# Altium schematic symbol library Analog Devices Amplifiers and Linear Comparators.SchLib: 160 symbols (part 5 of 9)
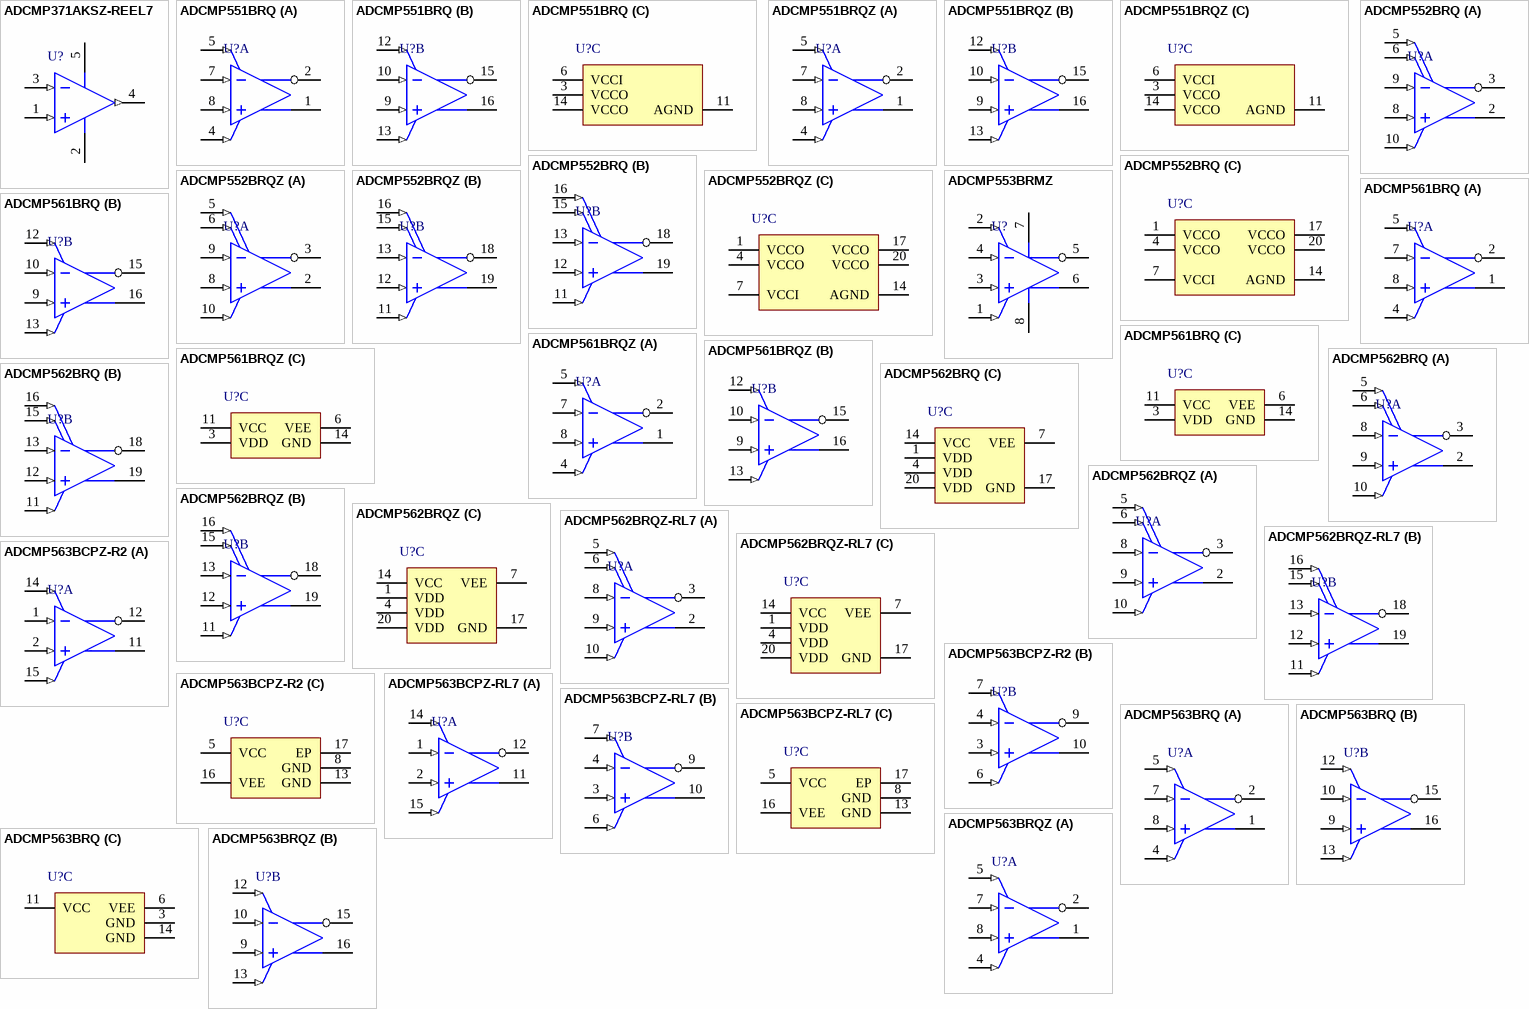
[diagram p11: symbols ADCMP371AKSZ-REEL7 to ADCMP563BRQZ]

## ADCMP563BRQ
designator U?
Dual High Speed ECL Comparator, 5, - 5.2 V, 750 ps Delay, Industrial, 16-pin SOP (RQ-16), Tube; Manufacturer: Analog Devices; PartNumber: ADCMP563BRQ; Input Range (V): -2 to 3; Voltage Supply (V): 5, -5.2; DatasheetVersion: Rev. C; PackageVersion: Aug-05; PackageReference: RQ-16; PackageDescription: 16-Pin Shrink Small Outline Package, Body 4.9 x 3.9 mm, Pitch 0.64 mm; Supplier 1: Digi-Key; Supplier Part Number 1: ADCMP563BRQ-ND; Supplier 2: Mouser; Supplier Part Number 2: N/A; Packing: Tube; Mounting Technology: Surface Mount; Code_JEDEC: MO-137-AB; ComponentLink1Description: Manufacturer URL; ComponentLink1URL: http://www.analog.com/en/index.html; ComponentLink2Description: Datasheet; ComponentLink2URL: http://www.analog.com/static/imported-files/data_sheets/ADCMP563_564.pdf; ComponentLink3Description: Package Specification; ComponentLink3URL: http://www.analog.com/static/imported-files/packages/5595549651201762937RQ_16.pdf; ComponentLink4Description: URL Link1; ComponentLink4URL: Product URL:http://www.analog.com/en/special-linear-functions/comparators/adcmp563/products/product.html
footprint ADI-RQ-16_N (SOP, 16-Leads, Body 4.9x3.9mm, Pitch 0.64mm, IPC Medium Density)
footprint ADI-RQ-16_L (SOP, 16-Leads, Body 4.9x3.9mm, Pitch 0.64mm, IPC High Density)
footprint ADI-RQ-16_M (SOP, 16-Leads, Body 4.9x3.9mm, Pitch 0.64mm, IPC Low Density)
part A pins: 1 QA (oe) "One of Two Complementary Outputs for Channel A. QA is logic high if the analog voltage at the noninverting input is greater than the analog voltage at the inverting input (provided the comparator is in compare mode). See the (See Datasheet)", 2 ~{QA} (oe) "One of Two Complementary Outputs for Channel A. Q\A\ is logic low if the analog voltage at the noninverting input is greater than the analog voltage at the inverting input (provided the comparator is in compare mode). See (See Datasheet)", 4 LEA (in) "One of Two Complementary Inputs for Channel A Latch Enable. In compare mode (logic high), the output tracks change at the input of the comparator. In latch mode (logic low), the output reflects the input state just prior to (See Datasheet)", 5 ~{LEA} (in) "One of Two Complementary Inputs for Channel A Latch Enable. In compare mode (logic low), the output tracks change at the input of the comparator. In latch mode (logic high), the output reflects the input state just prior to (See Datasheet)", 7 -INA (in) "Inverting Analog Input of the Differential Input Stage for Channel A. The Inverting A input must be driven in conjunction with the Noninverting A input.", 8 +INA (in) "Noninverting Analog Input of the Differential Input Stage for Channel A. The Noninverting A input must be driven in conjunction with the Inverting A input."
part B pins: 9 +INB (in) "Noninverting Analog Input of the Differential Input Stage for Channel B. The Noninverting B input must be driven in conjunction with the Inverting B input.", 10 -INB (in) "Inverting Analog Input of the Differential Input Stage for Channel B. The Inverting B input must be driven in conjunction with the Noninverting B input.", 12 ~{LEB} (in) "One of Two Complementary Inputs for Channel B Latch Enable. In compare mode (logic low), the output tracks change at the input of the comparator. In latch mode (logic high), the output reflects the input state just prior to (See Datasheet)", 13 LEB (in) "One of Two Complementary Inputs for Channel B Latch Enable. In compare mode (logic high), the output tracks change at the input of the comparator. In latch mode (logic low), the output reflects the input state just prior to (See Datasheet)", 15 ~{QB} (oe) "One of Two Complementary Outputs for Channel B. Q\B\ is logic low if the analog voltage at the noninverting input is greater than the analog voltage at the inverting input (provided the comparator is in compare mode). See (See Datasheet)", 16 QB (oe) "One of Two Complementary Outputs for Channel B. QB is logic high if the analog voltage at the noninverting input is greater than the analog voltage at the inverting input (provided the comparator is in compare mode). See the (See Datasheet)"
part C pins: 3 GND (power) "Analog Ground.", 6 VEE (power) "Negative Supply Terminal.", 11 VCC (power) "Positive Supply Terminal.", 14 GND (power) "Analog Ground."

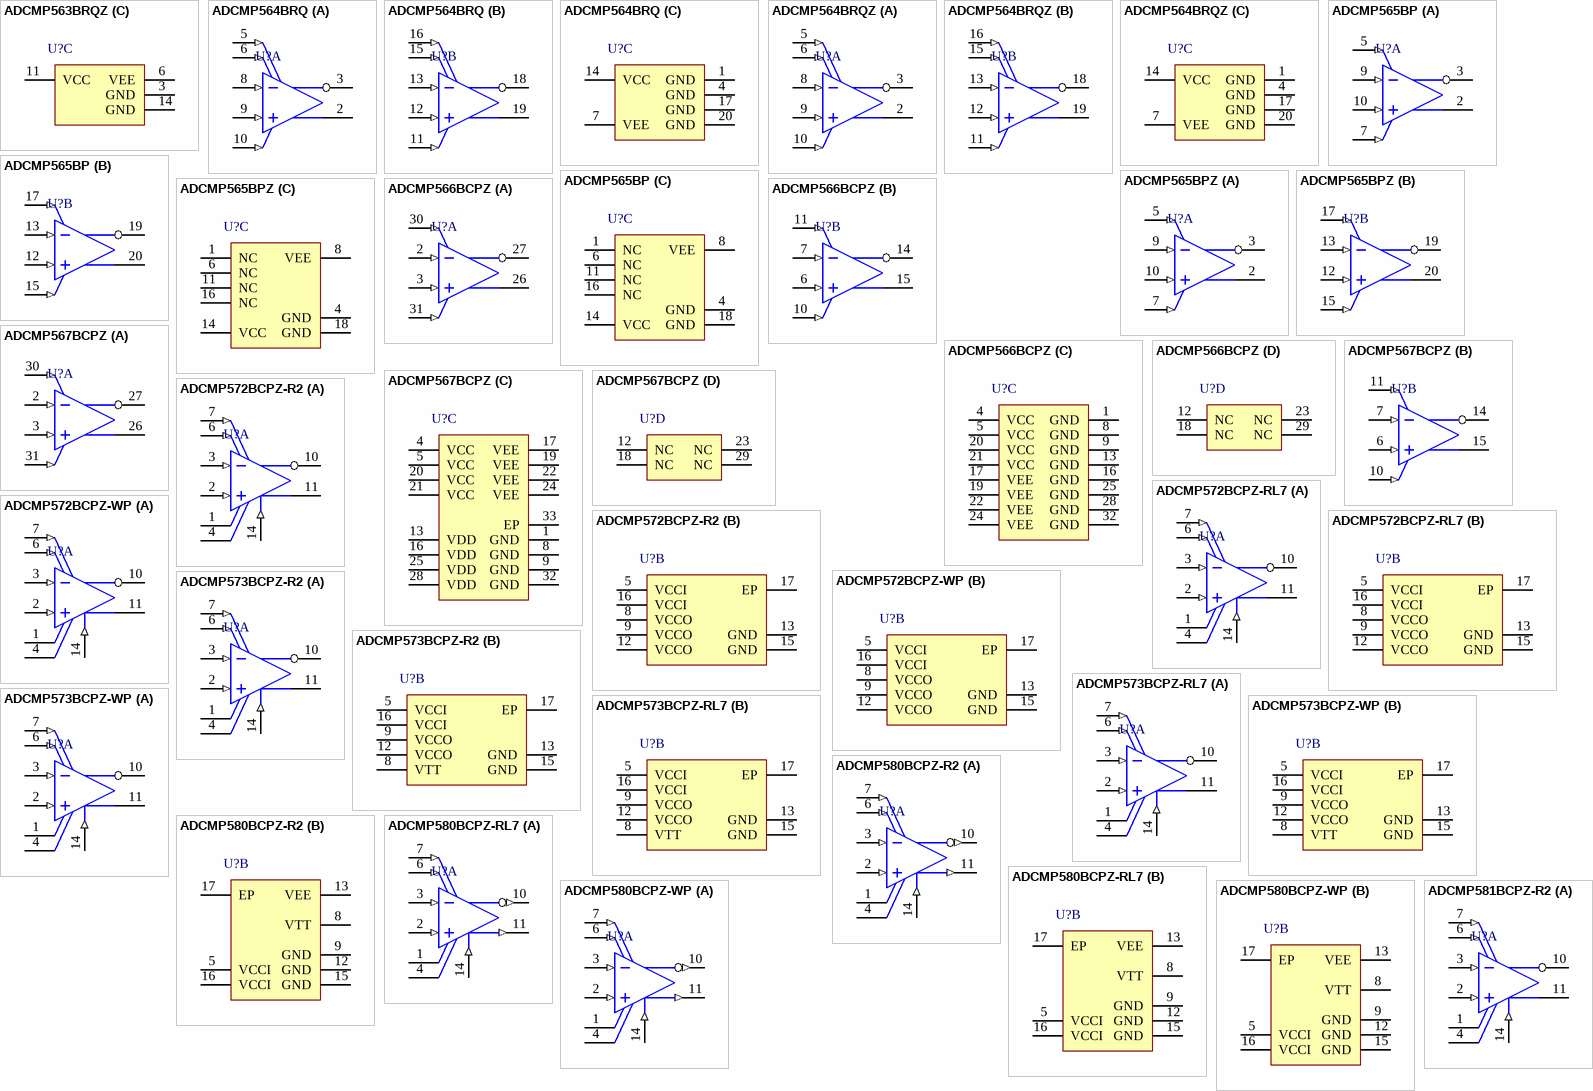
[diagram p4: symbols ADCMP563BRQZ to ADCMP581BCPZ-R2]

## ADCMP563BRQZ
designator U?
Dual High Speed ECL Comparator, 5, - 5.2 V, 750 ps Delay, Industrial, 16-pin SOP (RQ-16), Tube; Manufacturer: Analog Devices; PartNumber: ADCMP563BRQZ; Input Range (V): -2 to 3; Voltage Supply (V): 5, -5.2; DatasheetVersion: Rev. C; PackageVersion: Aug-05; PackageReference: RQ-16; PackageDescription: 16-Pin Shrink Small Outline Package, Body 4.9 x 3.9 mm, Pitch 0.64 mm; Supplier 1: Digi-Key; Supplier Part Number 1: ADCMP563BRQZ-ND; Supplier 2: Farnell; Supplier Part Number 2: 1438727; Supplier 3: Mouser; Supplier Part Number 3: 584-ADCMP563BRQZ; Packing: Tube; Mounting Technology: Surface Mount; Code_JEDEC: MO-137-AB; ComponentLink1Description: Manufacturer URL; ComponentLink1URL: http://www.analog.com/en/index.html; ComponentLink2Description: Datasheet; ComponentLink2URL: http://www.analog.com/static/imported-files/data_sheets/ADCMP563_564.pdf; ComponentLink3Description: Package Specification; ComponentLink3URL: http://www.analog.com/static/imported-files/packages/5595549651201762937RQ_16.pdf; ComponentLink4Description: URL Link1; ComponentLink4URL: Product URL:http://www.analog.com/en/special-linear-functions/comparators/adcmp563/products/product.html
footprint ADI-RQ-16_N (SOP, 16-Leads, Body 4.9x3.9mm, Pitch 0.64mm, IPC Medium Density)
footprint ADI-RQ-16_L (SOP, 16-Leads, Body 4.9x3.9mm, Pitch 0.64mm, IPC High Density)
footprint ADI-RQ-16_M (SOP, 16-Leads, Body 4.9x3.9mm, Pitch 0.64mm, IPC Low Density)
part A pins: 1 QA (oe) "One of Two Complementary Outputs for Channel A. QA is logic high if the analog voltage at the noninverting input is greater than the analog voltage at the inverting input (provided the comparator is in compare mode). See the (See Datasheet)", 2 ~{QA} (oe) "One of Two Complementary Outputs for Channel A. Q\A\ is logic low if the analog voltage at the noninverting input is greater than the analog voltage at the inverting input (provided the comparator is in compare mode). See (See Datasheet)", 4 LEA (in) "One of Two Complementary Inputs for Channel A Latch Enable. In compare mode (logic high), the output tracks change at the input of the comparator. In latch mode (logic low), the output reflects the input state just prior to (See Datasheet)", 5 ~{LEA} (in) "One of Two Complementary Inputs for Channel A Latch Enable. In compare mode (logic low), the output tracks change at the input of the comparator. In latch mode (logic high), the output reflects the input state just prior to (See Datasheet)", 7 -INA (in) "Inverting Analog Input of the Differential Input Stage for Channel A. The Inverting A input must be driven in conjunction with the Noninverting A input.", 8 +INA (in) "Noninverting Analog Input of the Differential Input Stage for Channel A. The Noninverting A input must be driven in conjunction with the Inverting A input."
part B pins: 9 +INB (in) "Noninverting Analog Input of the Differential Input Stage for Channel B. The Noninverting B input must be driven in conjunction with the Inverting B input.", 10 -INB (in) "Inverting Analog Input of the Differential Input Stage for Channel B. The Inverting B input must be driven in conjunction with the Noninverting B input.", 12 ~{LEB} (in) "One of Two Complementary Inputs for Channel B Latch Enable. In compare mode (logic low), the output tracks change at the input of the comparator. In latch mode (logic high), the output reflects the input state just prior to (See Datasheet)", 13 LEB (in) "One of Two Complementary Inputs for Channel B Latch Enable. In compare mode (logic high), the output tracks change at the input of the comparator. In latch mode (logic low), the output reflects the input state just prior to (See Datasheet)", 15 ~{QB} (oe) "One of Two Complementary Outputs for Channel B. Q\B\ is logic low if the analog voltage at the noninverting input is greater than the analog voltage at the inverting input (provided the comparator is in compare mode). See (See Datasheet)", 16 QB (oe) "One of Two Complementary Outputs for Channel B. QB is logic high if the analog voltage at the noninverting input is greater than the analog voltage at the inverting input (provided the comparator is in compare mode). See the (See Datasheet)"
part C pins: 3 GND (power) "Analog Ground.", 6 VEE (power) "Negative Supply Terminal.", 11 VCC (power) "Positive Supply Terminal.", 14 GND (power) "Analog Ground."

## ADCMP564BRQ
designator U?
Dual High Speed ECL Comparator, 5, - 5.2 V, 750 ps Delay, Industrial, 20-pin SOP (RQ-20), Tube; Manufacturer: Analog Devices; PartNumber: ADCMP564BRQ; Input Range (V): -2 to 3; Voltage Supply (V): 5, -5.2; DatasheetVersion: Rev. C; PackageVersion: Aug-05; PackageReference: RQ-20; PackageDescription: 20-Pin Shrink Small Outline Package, Body 8.66 x 3.9 mm, Pitch 0.635 mm; Supplier 1: Digi-Key; Supplier Part Number 1: ADCMP564BRQ-ND; Supplier 2: Mouser; Supplier Part Number 2: 584-ADCMP564BRQ; Packing: Tube; Mounting Technology: Surface Mount; Code_JEDEC: MO-137-AD; ComponentLink1Description: Manufacturer URL; ComponentLink1URL: http://www.analog.com/en/index.html; ComponentLink2Description: Datasheet; ComponentLink2URL: http://www.analog.com/static/imported-files/data_sheets/ADCMP563_564.pdf; ComponentLink3Description: Package Specification; ComponentLink3URL: http:/www.analog.com/static/imported-files/packages/184195322RQ_20.pdf; ComponentLink4Description: URL Link1; ComponentLink4URL: Product URL:http://www.analog.com/en/special-linear-functions/comparators/adcmp564/products/product.html
footprint ADI-RQ-20_N (SOP, 20-Leads, Body 8.66x3.9mm, Pitch 0.635mm, IPC Medium Density)
footprint ADI-RQ-20_L (SOP, 20-Leads, Body 8.66x3.9mm, Pitch 0.635mm, IPC High Density)
footprint ADI-RQ-20_M (SOP, 20-Leads, Body 8.66x3.9mm, Pitch 0.635mm, IPC Low Density)
part A pins: 2 QA (oe) "One of Two Complementary Outputs for Channel A. QA is logic high if the analog voltage at the noninverting input is greater than the analog voltage at the inverting input (provided the comparator is in compare mode). See the (See Datasheet)", 3 ~{QA} (oe) "One of Two Complementary Outputs for Channel A. Q\A\ is logic low if the analog voltage at the noninverting input is greater than the analog voltage at the inverting input (provided the comparator is in compare mode). See (See Datasheet)", 5 LEA (in) "One of Two Complementary Inputs for Channel A Latch Enable. In compare mode (logic high), the output tracks change at the input of the comparator. In latch mode (logic low), the output reflects the input state just prior to (See Datasheet)", 6 ~{LEA} (in) "One of Two Complementary Inputs for Channel A Latch Enable. In compare mode (logic low), the output tracks change at the input of the comparator. In latch mode (logic high), the output reflects the input state just prior to (See Datasheet)", 8 -INA (in) "Inverting Analog Input of the Differential Input Stage for Channel A. The Inverting A input must be driven in conjunction with the Noninverting A input.", 9 +INA (in) "Noninverting Analog Input of the Differential Input Stage for Channel A. The Noninverting A input must be driven in conjunction with the Inverting A input.", 10 HYSA (in) "Programmable Hysteresis Input."
part B pins: 11 HYSB (in) "Programmable Hysteresis Input.", 12 +INB (in) "Noninverting Analog Input of the Differential Input Stage for Channel B. The Noninverting B input must be driven in conjunction with the Inverting B input.", 13 -INB (in) "Inverting Analog Input of the Differential Input Stage for Channel B. The Inverting B input must be driven in conjunction with the Noninverting B input.", 15 ~{LEB} (in) "One of Two Complementary Inputs for Channel B Latch Enable. In compare mode (logic low), the output tracks change at the input of the comparator. In latch mode (logic high), the output reflects the input state just prior to (See Datasheet)", 16 LEB (in) "One of Two Complementary Inputs for Channel B Latch Enable. In compare mode (logic high), the output tracks change at the input of the comparator. In latch mode (logic low), the output reflects the input state just prior to (See Datasheet)", 18 ~{QB} (oe) "One of Two Complementary Outputs for Channel B. Q\B\ is logic low if the analog voltage at the noninverting input is greater than the analog voltage at the inverting input (provided the comparator is in compare mode). See (See Datasheet)", 19 QB (oe) "One of Two Complementary Outputs for Channel B. QB is logic high if the analog voltage at the noninverting input is greater than the analog voltage at the inverting input (provided the comparator is in compare mode). See the (See Datasheet)"
part C pins: 1 GND (power) "Analog Ground.", 4 GND (power) "Analog Ground.", 7 VEE (power) "Negative Supply Terminal.", 14 VCC (power) "Positive Supply Terminal.", 17 GND (power) "Analog Ground.", 20 GND (power) "Analog Ground."

## ADCMP564BRQZ
designator U?
Dual High Speed ECL Comparator, 5, - 5.2 V, 750 ps Delay, Industrial, 20-pin SOP (RQ-20), Tube; Manufacturer: Analog Devices; PartNumber: ADCMP564BRQZ; Input Range (V): -2 to 3; Voltage Supply (V): 5, -5.2; DatasheetVersion: Rev. C; PackageVersion: Aug-05; PackageReference: RQ-20; PackageDescription: 20-Pin Shrink Small Outline Package, Body 8.66 x 3.9 mm, Pitch 0.635 mm; Supplier 1: Digi-Key; Supplier Part Number 1: ADCMP564BRQZ-ND; Supplier 2: Farnell; Supplier Part Number 2: 1438728; Supplier 3: Mouser; Supplier Part Number 3: 584-ADCMP564BRQZ; Packing: Tube; Mounting Technology: Surface Mount; Code_JEDEC: MO-137-AD; ComponentLink1Description: Manufacturer URL; ComponentLink1URL: http://www.analog.com/en/index.html; ComponentLink2Description: Datasheet; ComponentLink2URL: http://www.analog.com/static/imported-files/data_sheets/ADCMP563_564.pdf; ComponentLink3Description: Package Specification; ComponentLink3URL: http:/www.analog.com/static/imported-files/packages/184195322RQ_20.pdf; ComponentLink4Description: URL Link1; ComponentLink4URL: Product URL:http://www.analog.com/en/special-linear-functions/comparators/adcmp564/products/product.html
footprint ADI-RQ-20_N (SOP, 20-Leads, Body 8.66x3.9mm, Pitch 0.635mm, IPC Medium Density)
footprint ADI-RQ-20_L (SOP, 20-Leads, Body 8.66x3.9mm, Pitch 0.635mm, IPC High Density)
footprint ADI-RQ-20_M (SOP, 20-Leads, Body 8.66x3.9mm, Pitch 0.635mm, IPC Low Density)
part A pins: 2 QA (oe) "One of Two Complementary Outputs for Channel A. QA is logic high if the analog voltage at the noninverting input is greater than the analog voltage at the inverting input (provided the comparator is in compare mode). See the (See Datasheet)", 3 ~{QA} (oe) "One of Two Complementary Outputs for Channel A. Q\A\ is logic low if the analog voltage at the noninverting input is greater than the analog voltage at the inverting input (provided the comparator is in compare mode). See (See Datasheet)", 5 LEA (in) "One of Two Complementary Inputs for Channel A Latch Enable. In compare mode (logic high), the output tracks change at the input of the comparator. In latch mode (logic low), the output reflects the input state just prior to (See Datasheet)", 6 ~{LEA} (in) "One of Two Complementary Inputs for Channel A Latch Enable. In compare mode (logic low), the output tracks change at the input of the comparator. In latch mode (logic high), the output reflects the input state just prior to (See Datasheet)", 8 -INA (in) "Inverting Analog Input of the Differential Input Stage for Channel A. The Inverting A input must be driven in conjunction with the Noninverting A input.", 9 +INA (in) "Noninverting Analog Input of the Differential Input Stage for Channel A. The Noninverting A input must be driven in conjunction with the Inverting A input.", 10 HYSA (in) "Programmable Hysteresis Input."
part B pins: 11 HYSB (in) "Programmable Hysteresis Input.", 12 +INB (in) "Noninverting Analog Input of the Differential Input Stage for Channel B. The Noninverting B input must be driven in conjunction with the Inverting B input.", 13 -INB (in) "Inverting Analog Input of the Differential Input Stage for Channel B. The Inverting B input must be driven in conjunction with the Noninverting B input.", 15 ~{LEB} (in) "One of Two Complementary Inputs for Channel B Latch Enable. In compare mode (logic low), the output tracks change at the input of the comparator. In latch mode (logic high), the output reflects the input state just prior to (See Datasheet)", 16 LEB (in) "One of Two Complementary Inputs for Channel B Latch Enable. In compare mode (logic high), the output tracks change at the input of the comparator. In latch mode (logic low), the output reflects the input state just prior to (See Datasheet)", 18 ~{QB} (oe) "One of Two Complementary Outputs for Channel B. Q\B\ is logic low if the analog voltage at the noninverting input is greater than the analog voltage at the inverting input (provided the comparator is in compare mode). See (See Datasheet)", 19 QB (oe) "One of Two Complementary Outputs for Channel B. QB is logic high if the analog voltage at the noninverting input is greater than the analog voltage at the inverting input (provided the comparator is in compare mode). See the (See Datasheet)"
part C pins: 1 GND (power) "Analog Ground.", 4 GND (power) "Analog Ground.", 7 VEE (power) "Negative Supply Terminal.", 14 VCC (power) "Positive Supply Terminal.", 17 GND (power) "Analog Ground.", 20 GND (power) "Analog Ground."

## ADCMP565BP
designator U?
Dual Ultrafast Voltage Comparator, 5, - 5.2 V, 300 ps Delay, Commercial, 20-pin PLCC (P-20A), Tube; Manufacturer: Analog Devices; PartNumber: ADCMP565BP; Input Range (V): -2 to 3; Total Power (mW): 435mW; Voltage Supply (V): 5, -5.2; DatasheetVersion: Rev. 0; PackageVersion: Nov-02; PackageReference: P-20A; PackageDescription: 20-Pin Plastic Leaded Chip Carrier, Body 8.97 x 8.97 mm, Pitch 1.27 mm; Supplier 1: Digi-Key; Supplier Part Number 1: ADCMP565BP-ND; Supplier 2: Mouser; Supplier Part Number 2: 584-ADCMP565BP; Packing: Tube; Mounting Technology: Through Hole; Code_JEDEC: MO-047AA; ComponentLink1Description: Manufacturer URL; ComponentLink1URL: http://www.analog.com/en/index.html; ComponentLink2Description: Datasheet; ComponentLink2URL: http://www.analog.com/static/imported-files/data_sheets/ADCMP565.pdf; ComponentLink3Description: Package Specification; ComponentLink3URL: http://www.analog.com/static/imported-files/packages/3121431516544404277643669223804694P20A.pdf; ComponentLink4Description: URL Link1; ComponentLink4URL: Product URL:http://www.analog.com/en/special-linear-functions/comparators/adcmp565/products/product.html
footprint ADI-P-20A_N (PLCC, 20-Leads, Body 8.965x8.965mm, Pitch 1.27mm, IPC Medium Density)
footprint ADI-P-20A_L (PLCC, 20-Leads, Body 8.965x8.965mm, Pitch 1.27mm, IPC High Density)
footprint ADI-P-20A_M (PLCC, 20-Leads, Body 8.965x8.965mm, Pitch 1.27mm, IPC Low Density)
part A pins: 2 QA (oe) "One of two complementary outputs for Channel A. QA will be at logic high if the analog voltage at the noninverting input is greater than the analog voltage at the inverting input (provided the comparator is in the compare (See Datasheet)", 3 ~{QA} (oe) "One of two complementary outputs for Channel A. Q\A\ will be at logic low if the analog voltage at the noninverting input is greater than the analog voltage at the inverting input (provided the comparator is in the compare (See Datasheet)", 5 LEA (in) "One of two complementary inputs for Channel A Latch Enable. In the compare mode (logic high), the output will track changes at the input of the comparator. In the latch mode (logic low), the output will reflect the input (See Datasheet)", 7 ~{LEA} (in) "One of two complementary inputs for Channel A Latch Enable. In the compare mode (logic low), the output will track changes at the input of the comparator. In the latch mode (logic high), the output will reflect the input (See Datasheet)", 9 -INA (in) "Inverting analog input of the differential input stage for Channel A. The inverting A input must be driven in conjunction with the noninverting A input.", 10 +INA (in) "Noninverting analog input of the differential input stage for Channel A. The noninverting A input must be driven in conjunction with the inverting A input."
part B pins: 12 +INB (in) "Noninverting analog input of the differential input stage for Channel B. The noninverting B input must be driven in conjunction with the inverting B input.", 13 -INB (in) "Inverting analog input of the differential input stage for Channel B. The inverting B input must be driven in conjunction with the noninverting B input.", 15 ~{LEB} (in) "One of two complementary inputs for Channel B Latch Enable. In the compare mode (logic low), the output will track changes at the input of the comparator. In the latch mode (logic high), the output will reflect the input (See Datasheet)", 17 LEB (in) "One of two complementary inputs for Channel B Latch Enable. In the compare mode (logic high), the output will track changes at the input of the comparator. In the latch mode (logic low), the output will reflect the input (See Datasheet)", 19 ~{QB} (oe) "One of two complementary outputs for Channel B. Q\B\ will be at logic low if the analog voltage at the noninverting input is greater than the analog voltage at the inverting input (provided the comparator is in the compare (See Datasheet)", 20 QB (oe) "One of two complementary outputs for Channel B. QB will be at logic high if the analog voltage at the noninverting input is greater than the analog voltage at the inverting input (provided the comparator is in the compare (See Datasheet)"
part C pins: 1 NC "No Connect. Leave pin unconnected.", 4 GND (power) "Analog Ground", 6 NC "No Connect. Leave pin unconnected or attach to GND (internally connected to GND).", 8 VEE (power) "Negative Supply Terminal", 11 NC "No Connect. Leave pin unconnected.", 14 VCC (power) "Positive Supply Terminal", 16 NC "No Connect. Leave pin unconnected or attach to GND (internally connected to GND).", 18 GND (power) "Analog Ground"

## ADCMP565BPZ
designator U?
Dual Ultrafast Voltage Comparator, 5, - 5.2 V, 300 ps Delay, Industrial, 20-pin PLCC (P-20A), Tube; Manufacturer: Analog Devices; PartNumber: ADCMP565BPZ; Input Range (V): -2 to 3; Total Power (mW): 435mW; Voltage Supply (V): 5, -5.2; DatasheetVersion: Rev. 0; PackageVersion: Nov-02; PackageReference: P-20A; PackageDescription: 20-Pin Plastic Leaded Chip Carrier, Body 8.97 x 8.97 mm, Pitch 1.27 mm; Supplier 1: Digi-Key; Supplier Part Number 1: ADCMP565BPZ-ND; Supplier 2: Mouser; Supplier Part Number 2: 584-ADCMP565BPZ; Packing: Tube; Mounting Technology: Through Hole; Code_JEDEC: MO-047AA; ComponentLink1Description: Manufacturer URL; ComponentLink1URL: http://www.analog.com/en/index.html; ComponentLink2Description: Datasheet; ComponentLink2URL: http://www.analog.com/static/imported-files/data_sheets/ADCMP565.pdf; ComponentLink3Description: Package Specification; ComponentLink3URL: http://www.analog.com/static/imported-files/packages/3121431516544404277643669223804694P20A.pdf; ComponentLink4Description: URL Link1; ComponentLink4URL: Product URL:http://www.analog.com/en/special-linear-functions/comparators/adcmp565/products/product.html
footprint ADI-P-20A_N (PLCC, 20-Leads, Body 8.965x8.965mm, Pitch 1.27mm, IPC Medium Density)
footprint ADI-P-20A_L (PLCC, 20-Leads, Body 8.965x8.965mm, Pitch 1.27mm, IPC High Density)
footprint ADI-P-20A_M (PLCC, 20-Leads, Body 8.965x8.965mm, Pitch 1.27mm, IPC Low Density)
part A pins: 2 QA (oe) "One of two complementary outputs for Channel A. QA will be at logic high if the analog voltage at the noninverting input is greater than the analog voltage at the inverting input (provided the comparator is in the compare (See Datasheet)", 3 ~{QA} (oe) "One of two complementary outputs for Channel A. Q\A\ will be at logic low if the analog voltage at the noninverting input is greater than the analog voltage at the inverting input (provided the comparator is in the compare (See Datasheet)", 5 LEA (in) "One of two complementary inputs for Channel A Latch Enable. In the compare mode (logic high), the output will track changes at the input of the comparator. In the latch mode (logic low), the output will reflect the input (See Datasheet)", 7 ~{LEA} (in) "One of two complementary inputs for Channel A Latch Enable. In the compare mode (logic low), the output will track changes at the input of the comparator. In the latch mode (logic high), the output will reflect the input (See Datasheet)", 9 -INA (in) "Inverting analog input of the differential input stage for Channel A. The inverting A input must be driven in conjunction with the noninverting A input.", 10 +INA (in) "Noninverting analog input of the differential input stage for Channel A. The noninverting A input must be driven in conjunction with the inverting A input."
part B pins: 12 +INB (in) "Noninverting analog input of the differential input stage for Channel B. The noninverting B input must be driven in conjunction with the inverting B input.", 13 -INB (in) "Inverting analog input of the differential input stage for Channel B. The inverting B input must be driven in conjunction with the noninverting B input.", 15 ~{LEB} (in) "One of two complementary inputs for Channel B Latch Enable. In the compare mode (logic low), the output will track changes at the input of the comparator. In the latch mode (logic high), the output will reflect the input (See Datasheet)", 17 LEB (in) "One of two complementary inputs for Channel B Latch Enable. In the compare mode (logic high), the output will track changes at the input of the comparator. In the latch mode (logic low), the output will reflect the input (See Datasheet)", 19 ~{QB} (oe) "One of two complementary outputs for Channel B. Q\B\ will be at logic low if the analog voltage at the noninverting input is greater than the analog voltage at the inverting input (provided the comparator is in the compare (See Datasheet)", 20 QB (oe) "One of two complementary outputs for Channel B. QB will be at logic high if the analog voltage at the noninverting input is greater than the analog voltage at the inverting input (provided the comparator is in the compare (See Datasheet)"
part C pins: 1 NC "No Connect. Leave pin unconnected.", 4 GND (power) "Analog Ground", 6 NC "No Connect. Leave pin unconnected or attach to GND (internally connected to GND).", 8 VEE (power) "Negative Supply Terminal", 11 NC "No Connect. Leave pin unconnected.", 14 VCC (power) "Positive Supply Terminal", 16 NC "No Connect. Leave pin unconnected or attach to GND (internally connected to GND).", 18 GND (power) "Analog Ground"

## ADCMP566BCPZ
designator U?
Dual Ultrafast Voltage Comparator, 5, - 5.2 V, 250 ps Delay, Industrial, 32-pin QFN (CP-32-2), Tray; Manufacturer: Analog Devices; PartNumber: ADCMP566BCPZ; Input Range (V): -2 to 3; Total Power (mW): 450mW; Voltage Supply (V): 5, -5.2; DatasheetVersion: Rev. 0; PackageVersion: Jan-05; PackageReference: CP-32-2; PackageDescription: 32-Pin Lead Frame Chip Scale Package, Body 5 x 5 mm, Pitch 0.5 mm; Supplier 1: Digi-Key; Supplier Part Number 1: ADCMP566BCPZ-ND; Supplier 2: Mouser; Supplier Part Number 2: 584-ADCMP566BCPZ; Packing: Tray; Mounting Technology: Surface Mount; Code_JEDEC: MO-220-VHHD-2; ComponentLink1Description: Manufacturer URL; ComponentLink1URL: http://www.analog.com/en/index.html; ComponentLink2Description: Datasheet; ComponentLink2URL: http://www.analog.com/static/imported-files/data_sheets/ADCMP566.pdf; ComponentLink3Description: Package Specification; ComponentLink3URL: http://www.analog.com/static/imported-files/packages/414143737956480539664569CP_32_2.pdf; ComponentLink4Description: URL Link1; ComponentLink4URL: Product URL:http://www.analog.com/en/special-linear-functions/comparators/adcmp566/products/product.html
footprint ADI-CP-32-2_N (QFN, 32-Leads, Body 5x5mm, Pitch 0.5mm, Thermal Pad 3.1x3.1mm, IPC Medium Density)
footprint ADI-CP-32-2_L (QFN, 32-Leads, Body 5x5mm, Pitch 0.5mm, Thermal Pad 3.1x3.1mm, IPC High Density)
footprint ADI-CP-32-2_M (QFN, 32-Leads, Body 5x5mm, Pitch 0.5mm, Thermal Pad 3.1x3.1mm, IPC Low Density)
part A pins: 2 -INA (in), 3 +INA (in), 26 QA (oe), 27 ~{QA} (oe), 30 LEA (in), 31 ~{LEA} (in)
part B pins: 6 +INB (in), 7 -INB (in), 10 ~{LEB} (in), 11 LEB (in), 14 ~{QB} (oe), 15 QB (oe)
part C pins: 1 GND (power) "Analog Ground", 4 VCC (power) "Positive Supply Terminal", 5 VCC (power) "Positive Supply Terminal", 8 GND (power) "Analog Ground", 9 GND (power) "Analog Ground", 13 GND (power) "Digital Ground", 16 GND (power) "Digital Ground", 17 VEE (power) "Negative Supply Terminal", 19 VEE (power) "Negative Supply Terminal", 20 VCC (power) "Positive Supply Terminal", 21 VCC (power) "Positive Supply Terminal", 22 VEE (power) "Negative Supply Terminal", 24 VEE (power) "Negative Supply Terminal", 25 GND (power) "Digital Ground", 28 GND (power) "Digital Ground", 32 GND (power) "Analog Ground"
part D pins: 12 NC "No Connect. Leave pin unconnected.", 18 NC "No Connect. Leave pin unconnected.", 23 NC "No Connect. Leave pin unconnected.", 29 NC "No Connect. Leave pin unconnected."

## ADCMP567BCPZ
designator U?
Dual Ultrafast Voltage Comparator, 5, - 5.2 V, 250 ps Delay, Industrial, 32-pin QFN (CP-32-2), Tray; Manufacturer: Analog Devices; PartNumber: ADCMP567BCPZ; Input Range (V): -2 to 3; Total Power (mW): 515mW; Voltage Supply (V): 5, -5.2; DatasheetVersion: Rev. 0; PackageVersion: Jan-05; PackageReference: CP-32-2; PackageDescription: 32-Pin Lead Frame Chip Scale Package, Body 5 x 5 mm, Pitch 0.5 mm; Supplier 1: Digi-Key; Supplier Part Number 1: ADCMP567BCPZ-ND; Supplier 2: Farnell; Supplier Part Number 2: 1438730; Supplier 3: Mouser; Supplier Part Number 3: 584-ADCMP567BCPZ; Packing: Tray; Mounting Technology: Surface Mount; Code_JEDEC: MO-220-VHHD-2; ComponentLink1Description: Manufacturer URL; ComponentLink1URL: http://www.analog.com/en/index.html; ComponentLink2Description: Datasheet; ComponentLink2URL: http://www.analog.com/static/imported-files/data_sheets/ADCMP567.pdf; ComponentLink3Description: Package Specification; ComponentLink3URL: http://www.analog.com/static/imported-files/packages/414143737956480539664569CP_32_2.pdf; ComponentLink4Description: URL Link1; ComponentLink4URL: Product URL:http://www.analog.com/en/special-linear-functions/comparators/adcmp567/products/product.html
footprint ADI-CP-32-2_N (QFN, 32-Leads, Body 5x5mm, Pitch 0.5mm, Thermal Pad 3.1x3.1mm, IPC Medium Density)
footprint ADI-CP-32-2_L (QFN, 32-Leads, Body 5x5mm, Pitch 0.5mm, Thermal Pad 3.1x3.1mm, IPC High Density)
footprint ADI-CP-32-2_M (QFN, 32-Leads, Body 5x5mm, Pitch 0.5mm, Thermal Pad 3.1x3.1mm, IPC Low Density)
part A pins: 2 -INA (in) "Inverting analog input of the differential input stage for Channel A. The inverting A input must be driven in conjunction with the noninverting A input.", 3 +INA (in) "Noninverting analog input of the differential input stage for Channel A. The noninverting A input must be driven in conjunction with the inverting A input.", 26 QA (oe) "One of two complementary outputs for Channel A. QA will be at logic high if the analog voltage at the noninverting input is greater than the analog voltage at the inverting input (provided the comparator is in the compare (See Datasheet)", 27 ~{QA} (oe) "One of two complementary outputs for Channel A. Q\A\ will be at logic low if the analog voltage at the noninverting input is greater than the analog voltage at the inverting input (provided the comparator is in the compare (See Datasheet)", 30 LEA (in) "One of two complementary inputs for Channel A Latch Enable. In the compare mode (logic high), the output will track changes at the input of the comparator. In the latch mode (logic low), the output will reflect the input (See Datasheet)", 31 ~{LEA} (in) "One of two complementary inputs for Channel A Latch Enable. In the compare mode (logic low), the output will track changes at the input of the comparator. In the latch mode (logic high), the output will reflect the input (See Datasheet)"
part B pins: 6 +INB (in) "Noninverting analog input of the differential input stage for Channel B. The noninverting B input must be driven in conjunction with the inverting B input.", 7 -INB (in) "Inverting analog input of the differential input stage for Channel B. The inverting B input must be driven in conjunction with the noninverting B input.", 10 ~{LEB} (in) "One of two complementary inputs for Channel B Latch Enable. In the compare mode (logic low), the output will track changes at the input of the comparator. In the latch mode (logic high), the output will reflect the input (See Datasheet)", 11 LEB (in) "One of two complementary inputs for Channel B Latch Enable. In the compare mode (logic high), the output will track changes at the input of the comparator. In the latch mode (logic low), the output will reflect the input (See Datasheet)", 14 ~{QB} (oe) "One of two complementary outputs for Channel B. Q\B\ will be at logic low if the analog voltage at the noninverting input is greater than the analog voltage at the inverting input (provided the comparator is in the compare (See Datasheet)", 15 QB (oe) "One of two complementary outputs for Channel B. QB will be at logic high if the analog voltage at the noninverting input is greater than the analog voltage at the inverting input (provided the comparator is in the compare (See Datasheet)"
part C pins: 1 GND (power) "Analog Ground", 4 VCC (power) "Positive Supply Terminal", 5 VCC (power) "Positive Supply Terminal", 8 GND (power) "Analog Ground", 9 GND (power) "Analog Ground", 13 VDD (power) "Logic Supply Terminal", 16 VDD (power) "Logic Supply Terminal", 17 VEE (power) "Negative Supply Terminal", 19 VEE (power) "Negative Supply Terminal", 20 VCC (power) "Positive Supply Terminal", 21 VCC (power) "Positive Supply Terminal", 22 VEE (power) "Negative Supply Terminal", 24 VEE (power) "Negative Supply Terminal", 25 VDD (power) "Logic Supply Terminal", 28 VDD (power) "Logic Supply Terminal", 32 GND (power) "Analog Ground", 33 EP "Exposed Pad"
part D pins: 12 NC "No Connect. Leave pin unconnected.", 18 NC "No Connect. Leave pin unconnected.", 23 NC "No Connect. Leave pin unconnected.", 29 NC "No Connect. Leave pin unconnected."

## ADCMP572BCPZ-R2
designator U?
Ultrafast Single-Supply SiGe Comparator, 3.3 to 5 V, 150 ps Delay, Industrial, 16-pin QFN (CP-16-3), Reel; Manufacturer: Analog Devices; PartNumber: ADCMP572BCPZ-R2; Input Range (V): -0.5 to VCCI+0.5; Supply Current: 3.3, 5; Voltage Supply (V): 3.3 to 5; DatasheetVersion: Rev. A; PackageReference: CP-16-3; PackageDescription: 16-Pin Lead Frame Chip Scale Package, Body 3 x 3 mm, Pitch 0.5 mm; Supplier 1: Digi-Key; Supplier Part Number 1: ADCMP572BCPZ-R2TR-ND; Supplier 2: Digi-Key; Supplier Part Number 2: ADCMP572BCPZ-R2CT-ND; Supplier 3: Digi-Key; Supplier Part Number 3: ADCMP572BCPZ-R2DKR-ND; Supplier 4: Farnell; Supplier Part Number 4: 1699521; Supplier 5: Mouser; Supplier Part Number 5: 584-ADCMP572BCPZ-R2; Packing: Reel; Mounting Technology: Surface Mount; Code_JEDEC: MO-220-VEED-2; ComponentLink1Description: Manufacturer URL; ComponentLink1URL: http://www.analog.com/en/index.html; ComponentLink2Description: Datasheet; ComponentLink2URL: http://www.analog.com/static/imported-files/data_sheets/ADCMP572_573.pdf; ComponentLink3Description: Package Specification; ComponentLink3URL: http://www.analog.com/static/imported-files/packages/PKG_PDF/LFCSP(CP)/CP_16_3.pdf; ComponentLink4Description: URL Link1; ComponentLink4URL: Product URL:http://www.analog.com/en/special-linear-functions/comparators/adcmp572/products/product.html
footprint ADI-CP-16-3_N (QFN, 16-Leads, Body 3x3mm, Pitch 0.5mm, Thermal Pad 1.5x1.5mm, IPC Medium Density)
footprint ADI-CP-16-3_L (QFN, 16-Leads, Body 3x3mm, Pitch 0.5mm, Thermal Pad 1.5x1.5mm, IPC High Density)
footprint ADI-CP-16-3_M (QFN, 16-Leads, Body 3x3mm, Pitch 0.5mm, Thermal Pad 1.5x1.5mm, IPC Low Density)
part A pins: 1 VTP "Termination Resistor Return Pin for VP Input.", 2 VP (in) "Noninverting Analog Input.", 3 VN (in) "Inverting Analog Input.", 4 VTN "Termination Resistor Return Pin for VN Input.", 6 ~{LE} (in) "Latch Enable Input Pin, Inverting Side.   In compare mode (L\E\ = low), the output tracks changes at the input of the comparator.   In latch mode (L\E\ = high), the output reflects the input state just prior to the (See Datasheet)", 7 LE (in) "Latch Enable Input Pin, Noninverting Side.   In compare mode (LE = high), the output tracks changes at the input of the comparator.   In latch mode (LE = low), the output reflects the input state just prior to the (See Datasheet)", 10 ~{Q} (oe) "Inverting Output. Q\ is at logic low if the analog voltage at the noninverting input, VP, is greater than the  analog voltage at the inverting input, VN, provided the comparator is in compare mode. See the LE/L\E\ (See Datasheet)", 11 Q (oe) "Noninverting Output. Q is at logic high if the analog voltage at the noninverting input VP is greater  than the analog voltage at the inverting input, VN, provided the comparator is in compare mode.   See the LE/L\E\ (See Datasheet)", 14 HYS (in) "Hysteresis Control Pin. Leave this pin disconnected for zero hysteresis. Connect to GND with a suitably  sized resistor to add the desired amount of hysteresis. Refer to Figure 7 for proper sizing of RHYS hysteresis control (See Datasheet)"
part B pins: 5 VCCI (power) "Positive Supply Voltage for Input Stage.", 8 VCCO (power) "Termination Return Pin for the LE/L\E\ Input Pins.   For the ADCMP572 (CML output stage), this pin is internally connected to and also should be externally  connected to the positive VCCO supply.", 9 VCCO (power) "Positive Supply Voltage for the CML/RSPECL Output Stage.", 12 VCCO (power) "Positive Supply Voltage for the CML/RSPECL Output Stage.", 13 GND (power) "Ground.", 15 GND (power) "Ground.", 16 VCCI (power) "Positive Supply Voltage for Input Stage.", 17 EP "The metallic back surface of the package is not electrically connected to any part of the circuit, and it  can be left floating for best electrical isolation between the package handle and the substrate of the  die. However, (See Datasheet)"

## ADCMP572BCPZ-RL7
designator U?
Ultrafast Single-Supply SiGe Comparator, 3.3 to 5 V, 150 ps Delay, Industrial, 16-pin QFN (CP-16-3), Reel; Manufacturer: Analog Devices; PartNumber: ADCMP572BCPZ-RL7; Input Range (V): -0.5 to VCCI+0.5; Supply Current: 3.3, 5; Voltage Supply (V): 3.3 to 5; DatasheetVersion: Rev. A; PackageReference: CP-16-3; PackageDescription: 16-Pin Lead Frame Chip Scale Package, Body 3 x 3 mm, Pitch 0.5 mm; Supplier 1: Digi-Key; Supplier Part Number 1: ADCMP572BCPZ-RL7-ND; Supplier 2: Mouser; Supplier Part Number 2: 584-ADCMP572BCPZ-R7; Packing: Reel; Mounting Technology: Surface Mount; Code_JEDEC: MO-220-VEED-2; ComponentLink1Description: Manufacturer URL; ComponentLink1URL: http://www.analog.com/en/index.html; ComponentLink2Description: Datasheet; ComponentLink2URL: http://www.analog.com/static/imported-files/data_sheets/ADCMP572_573.pdf; ComponentLink3Description: Package Specification; ComponentLink3URL: http://www.analog.com/static/imported-files/packages/PKG_PDF/LFCSP(CP)/CP_16_3.pdf; ComponentLink4Description: URL Link1; ComponentLink4URL: Product URL:http://www.analog.com/en/special-linear-functions/comparators/adcmp572/products/product.html
footprint ADI-CP-16-3_N (QFN, 16-Leads, Body 3x3mm, Pitch 0.5mm, Thermal Pad 1.5x1.5mm, IPC Medium Density)
footprint ADI-CP-16-3_L (QFN, 16-Leads, Body 3x3mm, Pitch 0.5mm, Thermal Pad 1.5x1.5mm, IPC High Density)
footprint ADI-CP-16-3_M (QFN, 16-Leads, Body 3x3mm, Pitch 0.5mm, Thermal Pad 1.5x1.5mm, IPC Low Density)
part A pins: 1 VTP "Termination Resistor Return Pin for VP Input.", 2 VP (in) "Noninverting Analog Input.", 3 VN (in) "Inverting Analog Input.", 4 VTN "Termination Resistor Return Pin for VN Input.", 6 ~{LE} (in) "Latch Enable Input Pin, Inverting Side.   In compare mode (L\E\ = low), the output tracks changes at the input of the comparator.   In latch mode (L\E\ = high), the output reflects the input state just prior to the (See Datasheet)", 7 LE (in) "Latch Enable Input Pin, Noninverting Side.   In compare mode (LE = high), the output tracks changes at the input of the comparator.   In latch mode (LE = low), the output reflects the input state just prior to the (See Datasheet)", 10 ~{Q} (oe) "Inverting Output. Q\ is at logic low if the analog voltage at the noninverting input, VP, is greater than the  analog voltage at the inverting input, VN, provided the comparator is in compare mode. See the LE/L\E\ (See Datasheet)", 11 Q (oe) "Noninverting Output. Q is at logic high if the analog voltage at the noninverting input VP is greater  than the analog voltage at the inverting input, VN, provided the comparator is in compare mode.   See the LE/L\E\ (See Datasheet)", 14 HYS (in) "Hysteresis Control Pin. Leave this pin disconnected for zero hysteresis. Connect to GND with a suitably  sized resistor to add the desired amount of hysteresis. Refer to Figure 7 for proper sizing of RHYS hysteresis control (See Datasheet)"
part B pins: 5 VCCI (power) "Positive Supply Voltage for Input Stage.", 8 VCCO (power) "Termination Return Pin for the LE/L\E\ Input Pins.   For the ADCMP572 (CML output stage), this pin is internally connected to and also should be externally  connected to the positive VCCO supply.", 9 VCCO (power) "Positive Supply Voltage for the CML/RSPECL Output Stage.", 12 VCCO (power) "Positive Supply Voltage for the CML/RSPECL Output Stage.", 13 GND (power) "Ground.", 15 GND (power) "Ground.", 16 VCCI (power) "Positive Supply Voltage for Input Stage.", 17 EP "The metallic back surface of the package is not electrically connected to any part of the circuit, and it  can be left floating for best electrical isolation between the package handle and the substrate of the  die. However, (See Datasheet)"

## ADCMP572BCPZ-WP
designator U?
Ultrafast Single-Supply SiGe Comparator, 3.3 to 5 V, 150 ps Delay, Industrial, 16-pin QFN (CP-16-3), Tray; Manufacturer: Analog Devices; PartNumber: ADCMP572BCPZ-WP; Input Range (V): -0.5 to VCCI+0.5; Supply Current: 3.3, 5; Voltage Supply (V): 3.3 to 5; DatasheetVersion: Rev. A; PackageReference: CP-16-3; PackageDescription: 16-Pin Lead Frame Chip Scale Package, Body 3 x 3 mm, Pitch 0.5 mm; Supplier 1: Digi-Key; Supplier Part Number 1: ADCMP572BCPZ-WP-ND; Supplier 2: Mouser; Supplier Part Number 2: 584-ADCMP572BCPZ-WP; Packing: Tray; Mounting Technology: Surface Mount; Code_JEDEC: MO-220-VEED-2; ComponentLink1Description: Manufacturer URL; ComponentLink1URL: http://www.analog.com/en/index.html; ComponentLink2Description: Datasheet; ComponentLink2URL: http://www.analog.com/static/imported-files/data_sheets/ADCMP572_573.pdf; ComponentLink3Description: Package Specification; ComponentLink3URL: http://www.analog.com/static/imported-files/packages/PKG_PDF/LFCSP(CP)/CP_16_3.pdf; ComponentLink4Description: URL Link1; ComponentLink4URL: Product URL:http://www.analog.com/en/special-linear-functions/comparators/adcmp572/products/product.html
footprint ADI-CP-16-3_N (QFN, 16-Leads, Body 3x3mm, Pitch 0.5mm, Thermal Pad 1.5x1.5mm, IPC Medium Density)
footprint ADI-CP-16-3_L (QFN, 16-Leads, Body 3x3mm, Pitch 0.5mm, Thermal Pad 1.5x1.5mm, IPC High Density)
footprint ADI-CP-16-3_M (QFN, 16-Leads, Body 3x3mm, Pitch 0.5mm, Thermal Pad 1.5x1.5mm, IPC Low Density)
part A pins: 1 VTP "Termination Resistor Return Pin for VP Input.", 2 VP (in) "Noninverting Analog Input.", 3 VN (in) "Inverting Analog Input.", 4 VTN "Termination Resistor Return Pin for VN Input.", 6 ~{LE} (in) "Latch Enable Input Pin, Inverting Side.   In compare mode (L\E\ = low), the output tracks changes at the input of the comparator.   In latch mode (L\E\ = high), the output reflects the input state just prior to the (See Datasheet)", 7 LE (in) "Latch Enable Input Pin, Noninverting Side.   In compare mode (LE = high), the output tracks changes at the input of the comparator.   In latch mode (LE = low), the output reflects the input state just prior to the (See Datasheet)", 10 ~{Q} (oe) "Inverting Output. Q\ is at logic low if the analog voltage at the noninverting input, VP, is greater than the  analog voltage at the inverting input, VN, provided the comparator is in compare mode. See the LE/L\E\ (See Datasheet)", 11 Q (oe) "Noninverting Output. Q is at logic high if the analog voltage at the noninverting input VP is greater  than the analog voltage at the inverting input, VN, provided the comparator is in compare mode.   See the LE/L\E\ (See Datasheet)", 14 HYS (in) "Hysteresis Control Pin. Leave this pin disconnected for zero hysteresis. Connect to GND with a suitably  sized resistor to add the desired amount of hysteresis. Refer to Figure 7 for proper sizing of RHYS hysteresis control (See Datasheet)"
part B pins: 5 VCCI (power) "Positive Supply Voltage for Input Stage.", 8 VCCO (power) "Termination Return Pin for the LE/L\E\ Input Pins.   For the ADCMP572 (CML output stage), this pin is internally connected to and also should be externally  connected to the positive VCCO supply.", 9 VCCO (power) "Positive Supply Voltage for the CML/RSPECL Output Stage.", 12 VCCO (power) "Positive Supply Voltage for the CML/RSPECL Output Stage.", 13 GND (power) "Ground.", 15 GND (power) "Ground.", 16 VCCI (power) "Positive Supply Voltage for Input Stage.", 17 EP "The metallic back surface of the package is not electrically connected to any part of the circuit, and it  can be left floating for best electrical isolation between the package handle and the substrate of the  die. However, (See Datasheet)"

## ADCMP573BCPZ-R2
designator U?
Ultrafast Single-Supply SiGe Comparator, 3.3 to 5 V, 150 ps Delay, Industrial, 16-pin QFN (CP-16-2), Reel; Manufacturer: Analog Devices; PartNumber: ADCMP573BCPZ-R2; Input Range (V): -0.5 to VCCI+0.5; Supply Current: 3.3, 5; Voltage Supply (V): 3.3 to 5; DatasheetVersion: Rev. A; PackageVersion: Jan-05; PackageReference: CP-16-2; PackageDescription: 16-Pin Lead Frame Chip Scale Package, Body 3 x 3 mm, Pitch 0.5 mm; Supplier 1: Digi-Key; Supplier Part Number 1: ADCMP573BCPZ-R2TR-ND; Supplier 2: Digi-Key; Supplier Part Number 2: ADCMP573BCPZ-R2CT-ND; Supplier 3: Digi-Key; Supplier Part Number 3: ADCMP573BCPZ-R2DKR-ND; Supplier 4: Farnell; Supplier Part Number 4: 1699522; Supplier 5: Mouser; Supplier Part Number 5: 584-ADCMP573BCPZ-R2; Packing: Reel; Mounting Technology: Surface Mount; Code_JEDEC: MO-220-VEED-2; ComponentLink1Description: Manufacturer URL; ComponentLink1URL: http://www.analog.com/en/index.html; ComponentLink2Description: Datasheet; ComponentLink2URL: http://www.analog.com/static/imported-files/data_sheets/ADCMP572_573.pdf; ComponentLink3Description: Package Specification; ComponentLink3URL: http:/www.analog.com/static/imported-files/packages/PKG_PDF/LFCSP(CP)/CP_16_2.pdf; ComponentLink4Description: URL Link1; ComponentLink4URL: Product URL:http://www.analog.com/en/special-linear-functions/comparators/adcmp573/products/product.html
footprint ADI-CP-16-2_N (QFN, 16-Leads, Body 3x3mm, Pitch 0.5mm, Thermal Pad 1.3x1.3mm, IPC Medium Density)
footprint ADI-CP-16-2_L (QFN, 16-Leads, Body 3x3mm, Pitch 0.5mm, Thermal Pad 1.3x1.3mm, IPC High Density)
footprint ADI-CP-16-2_M (QFN, 16-Leads, Body 3x3mm, Pitch 0.5mm, Thermal Pad 1.3x1.3mm, IPC Low Density)
part A pins: 1 VTP "Termination Resistor Return Pin for VP Input.", 2 VP (in) "Noninverting Analog Input.", 3 VN (in) "Inverting Analog Input.", 4 VTN "Termination Resistor Return Pin for VN Input.", 6 ~{LE} (in) "Latch Enable Input Pin, Inverting Side.   In compare mode (L\E\ = low), the output tracks changes at the input of the comparator.   In latch mode (L\E\ = high), the output reflects the input state just prior to the (See Datasheet)", 7 LE (in) "Latch Enable Input Pin, Noninverting Side.   In compare mode (LE = high), the output tracks changes at the input of the comparator.   In latch mode (LE = low), the output reflects the input state just prior to the (See Datasheet)", 10 ~{Q} (oe) "Inverting Output. Q\ is at logic low if the analog voltage at the noninverting input, VP, is greater than the  analog voltage at the inverting input, VN, provided the comparator is in compare mode. See the LE/L\E\ (See Datasheet)", 11 Q (oe) "Noninverting Output. Q is at logic high if the analog voltage at the noninverting input VP is greater  than the analog voltage at the inverting input, VN, provided the comparator is in compare mode.   See the LE/L\E\ (See Datasheet)", 14 HYS (in) "Hysteresis Control Pin. Leave this pin disconnected for zero hysteresis. Connect to GND with a suitably  sized resistor to add the desired amount of hysteresis. Refer to Figure 7 for proper sizing of RHYS hysteresis control (See Datasheet)"
part B pins: 5 VCCI (power) "Positive Supply Voltage for Input Stage.", 8 VTT (power) "Termination Return Pin for the LE/L\E\ Input Pins.For the ADCMP573 (RSPECL output stage), this pin should normally be connected to the VCCO - 2 V termination potential.", 9 VCCO (power) "Positive Supply Voltage for the CML/RSPECL Output Stage.", 12 VCCO (power) "Positive Supply Voltage for the CML/RSPECL Output Stage.", 13 GND (power) "Ground.", 15 GND (power) "Ground.", 16 VCCI (power) "Positive Supply Voltage for Input Stage.", 17 EP "The metallic back surface of the package is not electrically connected to any part of the circuit, and it can be left floating for best electrical isolation between the package handle and the substrate of the die. However, (See Datasheet)"